# Altium footprint library GaN_Single_Bridge.PcbLib: 17 footprints (part 2 of 2)
Each footprint in its own frame and in the unit in brackets; x right, y up, seen from the top. Pads: shape width x height; smd on the part's side, far side on the other; paste and mask are expansions set on the pad; w line width, h text height; cw(c..) or ccw(c..) is an arc to the next point about the centre after c.
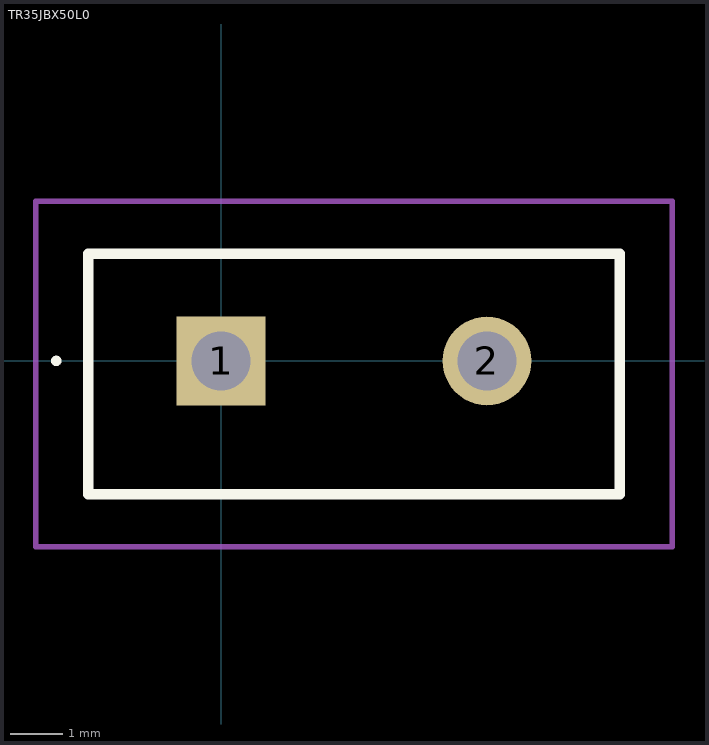
[diagram p1: the footprint, top view; thin cyan lines are the x and y axes]

## TR35JBX50L0 [mm]
pads (2):
  rect 1.695x1.695 hole 1.13: 1(0,0)
  round 1.695 hole 1.13: 2(5.08,0)
Top Overlay:
  lines w0.1: -3.2,0 ccw(c-3.15,0) -3.1,0 ccw(c-3.15,0) -3.2,0
  lines w0.2: -2.54,-2.55 7.62,-2.55 7.62,2.05 -2.54,2.05 -2.54,-2.55
Mechanical 15:
  lines w0.1: -2.54,-2.55 7.62,-2.55 7.62,2.05 -2.54,2.05 -2.54,-2.55
Mechanical 20:
  lines w0.1: -3.54,-3.55 8.62,-3.55 8.62,3.05 -3.54,3.05 -3.54,-3.55
3D body "TR35JBX50L0.stp": height 18.08, standoff -10.37, extent -2.667,-2.799 7.493,0.381